# Altium footprint library Other_Passive.PcbLib: 7 footprints
Each footprint in its own frame and in the unit in brackets; x right, y up, seen from the top. Pads: shape width x height; smd on the part's side, far side on the other; paste and mask are expansions set on the pad; w line width, h text height; cw(c..) or ccw(c..) is an arc to the next point about the centre after c.
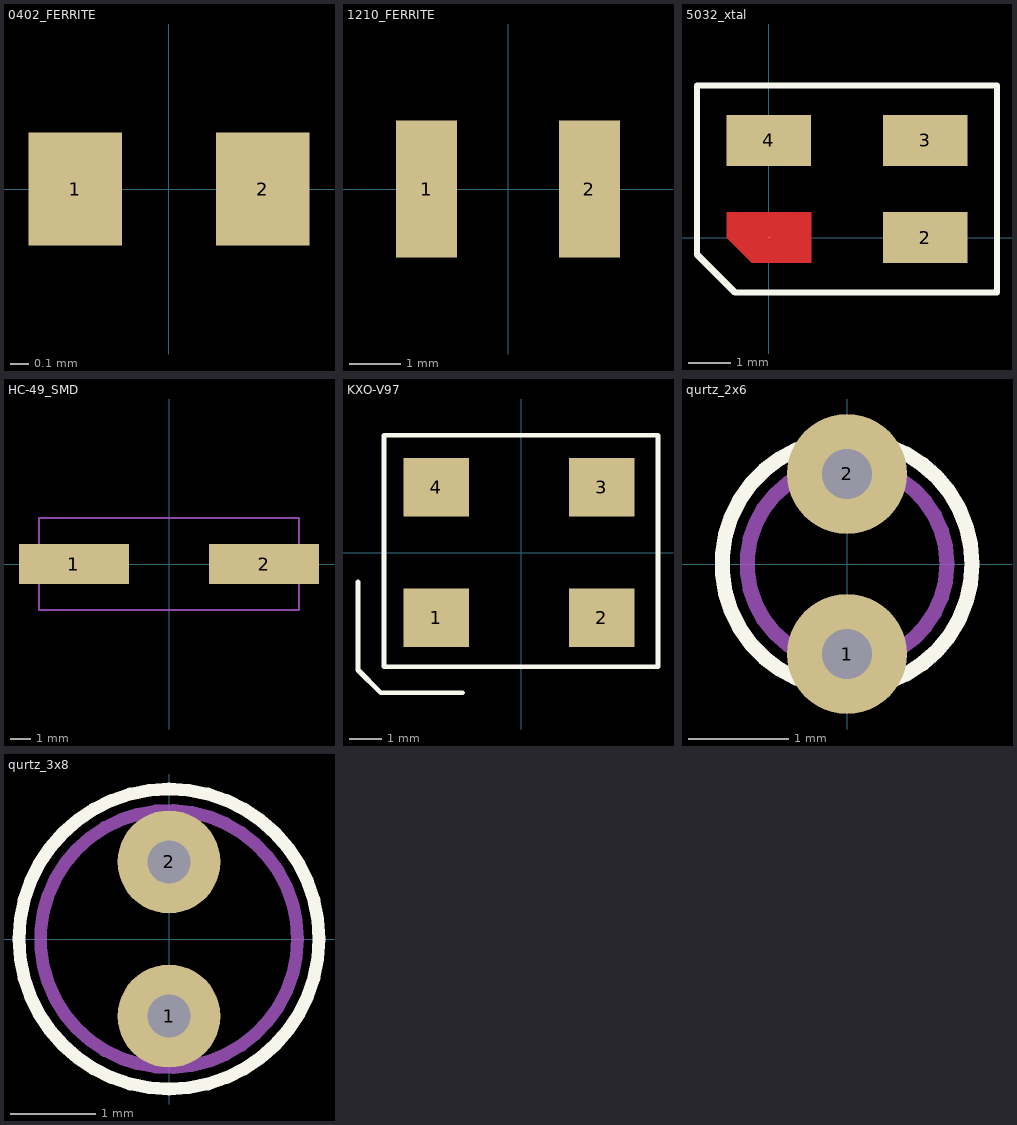
[diagram p0: the footprints below, top view; thin cyan lines are the x and y axes]

## 0402_FERRITE [mm] "Resistor\Capasitor"
pads (2):
  rect 0.5x0.6 smd: 1(-0.5,0) 2(0.5,0)
3D body "0402_ferrite.STEP": height 0.5, standoff 0, extent -0.5,-0.25 0.5,0.25

## 1210_FERRITE [mm] "Resistor\Capasitor"
pads (2):
  rect 1.2x2.7 smd: 1(-1.6,0) 2(1.6,0)
3D body "1210_ferrite.STEP": height 2.2, standoff 0, extent -1.6,-1.25 1.6,1.25

## 5032_xtal [mm]
pads (4):
  round 0.025 smd: 1(0,0)
  rect 2x1.2 smd: 2(3.7,0) 3(3.7,2.3) 4(0,2.3)
Top Layer:
  region: -0.4,-0.6 -1,0 -1,0.6 1,0.6 1,-0.6
Top Overlay:
  lines w0.15: -1.7,-0.4 -1.7,3.6 5.4,3.6 5.4,-1.3 -0.8,-1.3 -1.7,-0.4

## HC-49_SMD [mm] "HC-49 (U-S) package resonator"
pads (2):
  rect 5.5x2 smd: 1(-4.75,0) 2(4.75,0)
Mechanical 13:
  lines w0.1: -6.5,-2.3 6.5,-2.3 6.5,2.3 -6.5,2.3 -6.5,-2.3
3D body "HC-49.STEP": height 4.5, standoff 0, extent -6.75,-2.5 6.75,2.5

## KXO-V97 [mm] "smd quartz generator"
pads (4):
  rect 2x1.8 smd: 1(-2.6,-2) 2(2.475,-2) 3(2.475,2) 4(-2.6,2)
Top Overlay:
  lines w0.15: -5,-0.9 -5,-3.6 -4.3,-4.3 -1.8,-4.3 ; -4.2,1.2 -4.2,1.4 ; -4.2,-3.5 4.2,-3.5 4.2,-0.4 4.2,3.6 -4.2,3.6 -4.2,-3.5

## qurtz_2x6 [mm]
pads (2):
  round 1.2 hole 0.5: 1(0,-0.9) 2(0,0.9)
Top Overlay:
  circle w0.15: c0,0 r1.25
Mechanical 13:
  circle w0.15: c0,0 r1

## qurtz_3x8 [mm]
pads (2):
  round 1.2 hole 0.5: 1(0,-0.9) 2(0,0.9)
Top Overlay:
  circle w0.15: c0,0 r1.75
Mechanical 13:
  circle w0.15: c0,0 r1.5